# Altium schematic symbol library pifa_lib_sch.SchLib: 1 symbol
Pins are listed as number, name and electrical type; pins without a type are passive.

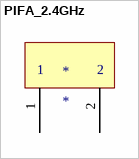
[diagram p0: symbol PIFA_2.4GHz]

## PIFA_2.4GHz
designator *
footprint PIFA
pins: 1, 2